# Altium schematic symbol library CustomByWojtek.schlib: 9 symbols
Pins are listed as number, name and electrical type; pins without a type are passive.

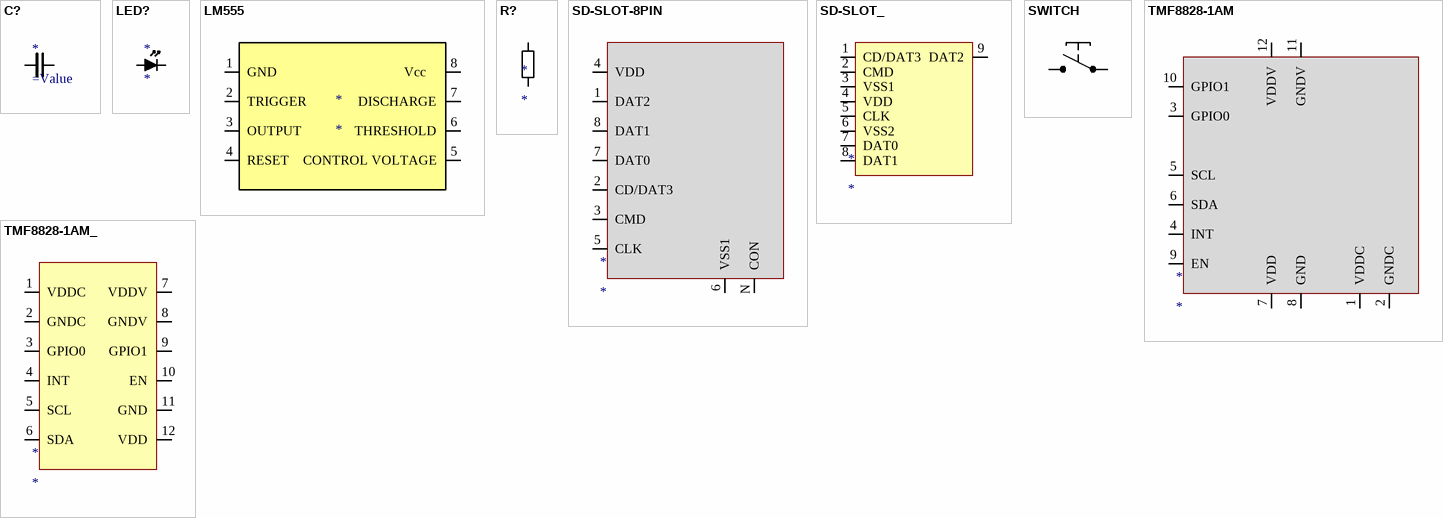
[diagram p0: symbols C? to TMF8828-1AM_]

## C?
designator *
Parameter 1: =Value
pins: 1, 2

## LED?
designator *
pins: 1 A, 2 K

## LM555
designator *
pins: 1 GND, 2 TRIGGER, 3 OUTPUT, 4 RESET, 5 CONTROL VOLTAGE, 6 THRESHOLD, 7 DISCHARGE, 8 Vcc   

## R?
designator *
Parameter 1: =Value
pins: 1, 2

## SD-SLOT-8PIN
designator *
footprint ST12S010VBAR1800
pins: 1 DAT2, 2 CD/DAT3, 3 CMD, 4 VDD, 5 CLK, 6 VSS1, 7 DAT0, 8 DAT1, N CON "Conection to PCB"

## SD-SLOT_
designator *
pins: 1 CD/DAT3, 2 CMD, 3 VSS1, 4 VDD, 5 CLK, 6 VSS2, 7 DAT0, 8 DAT1, 9 DAT2

## SWITCH
designator ?
pins: 0, 0

## TMF8828-1AM
designator *
footprint OLGA12 (OLGA12 Package for TMF8820/21/28)
pins: 1 VDDC, 2 GNDC, 3 GPIO0, 4 INT, 5 SCL, 6 SDA, 7 VDD, 8 GND, 9 EN, 10 GPIO1, 11 GNDV, 12 VDDV

## TMF8828-1AM_
designator *
pins: 1 VDDC, 2 GNDC, 3 GPIO0, 4 INT, 5 SCL, 6 SDA, 7 VDDV, 8 GNDV, 9 GPIO1, 10 EN, 11 GND, 12 VDD